# Altium schematic symbol library SCH - POWER - SUPPLY - TEL_15-2423N.SchLib: 1 symbol
Pins are listed as number, name and electrical type; pins without a type are passive.

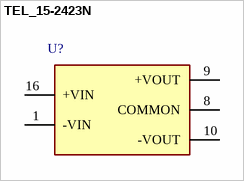
[diagram p0: symbol TEL_15-2423N]

## TEL_15-2423N
designator U?
Power Supply
pins: 1 -VIN (power), 8 COMMON, 9 +VOUT (power), 10 -VOUT (power), 16 +VIN (power)